# Altium footprint library MOLEX_387207502.PcbLib: 1 footprints
Each footprint in its own frame and in the unit in brackets; x right, y up, seen from the top. Pads: shape width x height; smd on the part's side, far side on the other; paste and mask are expansions set on the pad; w line width, h text height; cw(c..) or ccw(c..) is an arc to the next point about the centre after c.
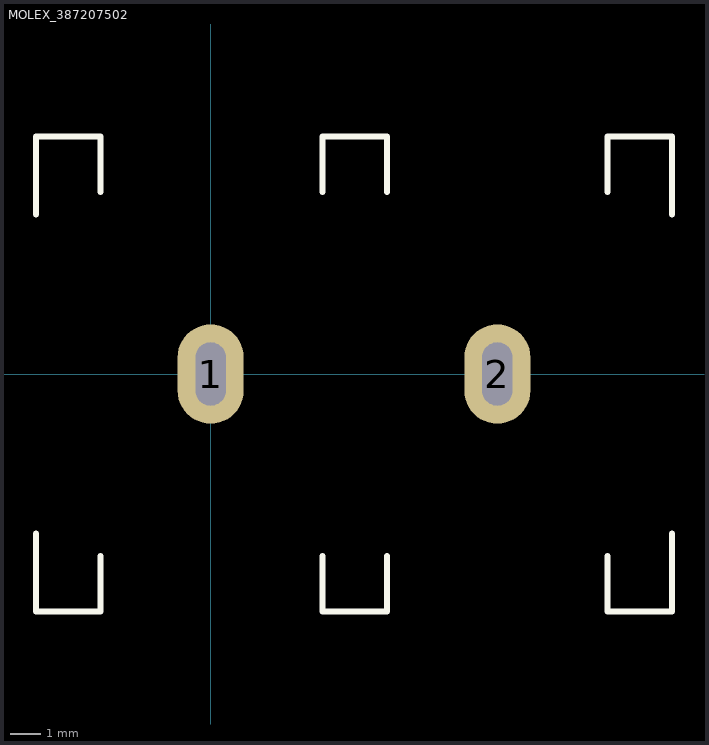
[diagram p0: the footprint, top view; thin cyan lines are the x and y axes]

## MOLEX_387207502 [mm]
pads (2):
  oval 2.2x3.3 hole 2.1 slot 1 at 0 deg: 1(0,0) 2(9.53,0)
Top Overlay:
  lines w0.2: -5.809,-5.3 -5.809,-7.9 -3.659,-7.9 -3.659,-6.05 ; -5.809,5.3 -5.809,7.9 -3.659,7.9 -3.659,6.05 ; 3.716,-6.05 3.716,-7.9 5.866,-7.9 5.866,-6.05 ; 3.716,6.05 3.716,7.9 5.866,7.9 5.866,6.05 ; 13.189,-6.05 13.189,-7.9 15.339,-7.9 15.339,-5.3 ; 13.189,6.05 13.189,7.9 15.339,7.9 15.339,5.3
3D body "MOLEX_387207502.stp": height 16.76, standoff -4.83, extent -5.776,-7.874 15.306,7.874